# Altium schematic symbol library SCH - DRIVER - LED - TI LP5036RJV.SchLib: 1 symbol
Pins are listed as number, name and electrical type; pins without a type are passive.

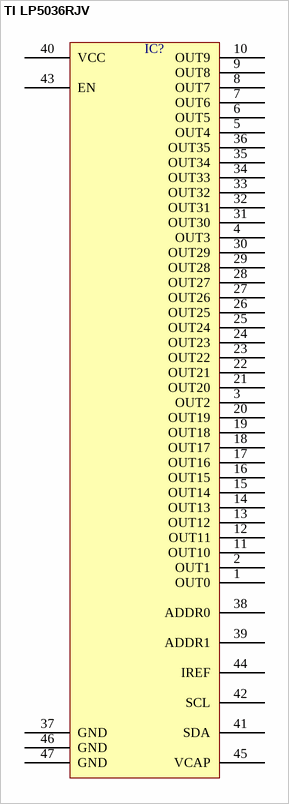
[diagram p0: symbol TI LP5036RJV]

## TI LP5036RJV
designator IC?  (value not drawn)
pins: 1 OUT0, 2 OUT1, 3 OUT2, 4 OUT3, 5 OUT4, 6 OUT5, 7 OUT6, 8 OUT7, 9 OUT8, 10 OUT9, 11 OUT10, 12 OUT11, 13 OUT12, 14 OUT13, 15 OUT14, 16 OUT15, 17 OUT16, 18 OUT17, 19 OUT18, 20 OUT19, 21 OUT20, 22 OUT21, 23 OUT22, 24 OUT23, 25 OUT24, 26 OUT25, 27 OUT26, 28 OUT27, 29 OUT28, 30 OUT29, 31 OUT30, 32 OUT31, 33 OUT32, 34 OUT33, 35 OUT34, 36 OUT35, 37 GND, 38 ADDR0, 39 ADDR1, 40 VCC, 41 SDA, 42 SCL, 43 EN, 44 IREF, 45 VCAP, 46 GND, 47 GND